# Altium footprint library Tiresias_active.PcbLib: 8 footprints
Each footprint in its own frame and in the unit in brackets; x right, y up, seen from the top. Pads: shape width x height; smd on the part's side, far side on the other; paste and mask are expansions set on the pad; w line width, h text height; cw(c..) or ccw(c..) is an arc to the next point about the centre after c.
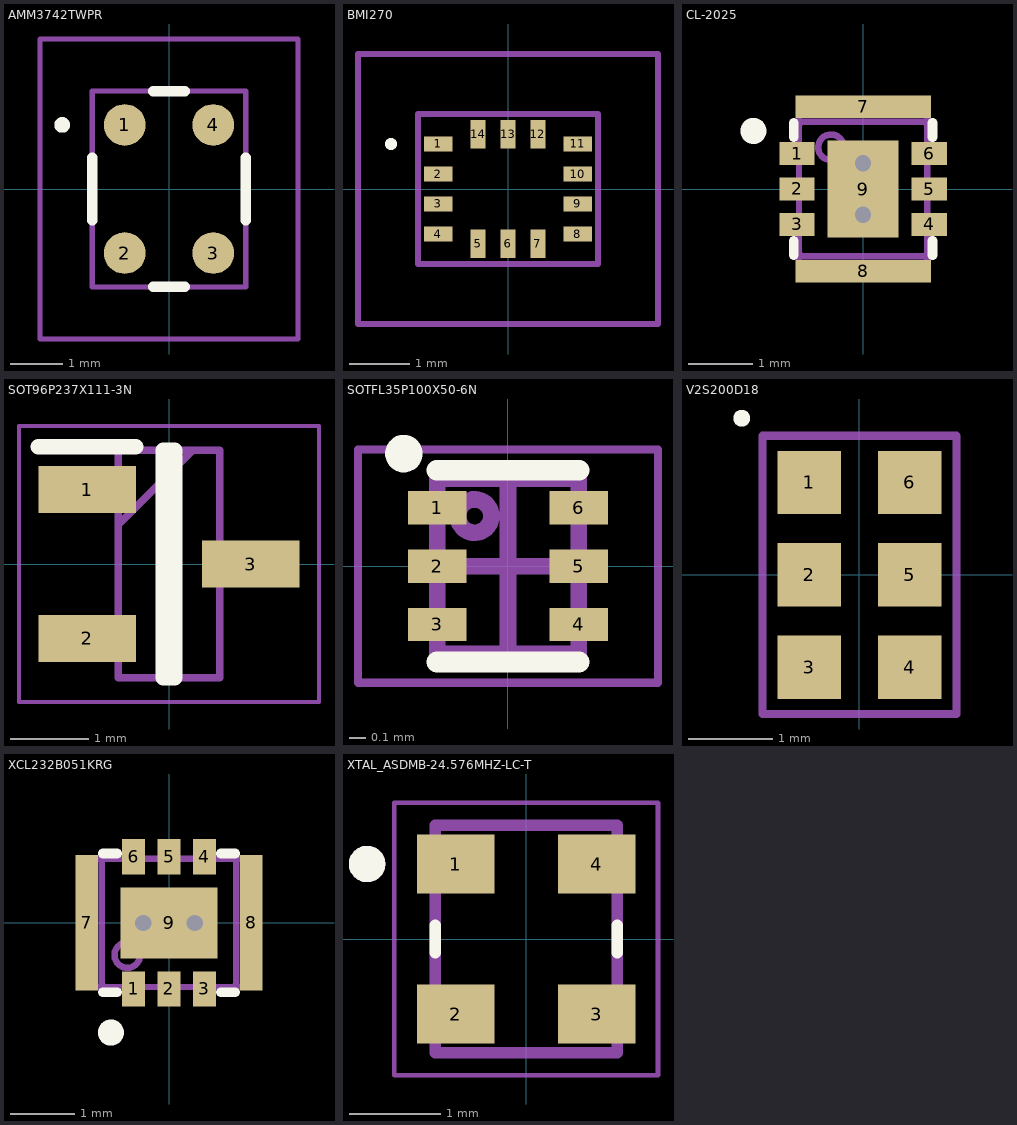
[diagram p0: the footprints below, top view; thin cyan lines are the x and y axes]

## AMM3742TWPR [mm]
pads (4):
  round 0.8 smd: 1(-0.85,1.23) 2(-0.85,-1.23) 3(0.85,-1.23) 4(0.85,1.23)
Top Overlay:
  lines w0.2: -1.475,-0.6 -1.475,0.6 ; -0.3,-1.88 0.3,-1.88 ; -0.3,1.88 0.3,1.88 ; 1.475,-0.6 1.475,0.6 ; -2.1,1.23 ccw(c-2.05,1.23) -2,1.23 ; -2.1,1.23 cw(c-2.05,1.23) -2,1.23 ; -2.1,1.23 ccw(c-2.05,1.23) -2,1.23
Mechanical 15:
  lines w0.1: -1.475,-1.88 -1.475,1.88 1.475,1.88 1.475,-1.88 -1.475,-1.88
Mechanical 20:
  lines w0.1: -2.475,-2.88 -2.475,2.88 2.475,2.88 2.475,-2.88 -2.475,-2.88
3D body "AMM-3742-T-WP-R.stp": height 1.4, standoff 0, extent -1.475,-1.88 1.475,1.88

## BMI270 [mm]
pads (14):
  rect 0.475x0.25 smd: 1(-1.163,0.75) 2(-1.163,0.25) 3(-1.163,-0.25) 4(-1.163,-0.75) 8(1.162,-0.75) 9(1.162,-0.25) 10(1.162,0.25) 11(1.162,0.75)
  rect 0.25x0.475 smd: 5(-0.5,-0.913) 6(0,-0.913) 7(0.5,-0.913) 12(0.5,0.913) 13(0,0.913) 14(-0.5,0.913)
Top Overlay:
  lines w0.1: -2,0.75 ccw(c-1.95,0.75) -1.9,0.75 ccw(c-1.95,0.75) -2,0.75
Mechanical 15:
  lines w0.1: -1.5,-1.25 1.5,-1.25 1.5,1.25 -1.5,1.25 -1.5,-1.25
Mechanical 20:
  lines w0.1: -2.5,-2.25 2.5,-2.25 2.5,2.25 -2.5,2.25 -2.5,-2.25
3D body "BMI270.stp": height 0.7, standoff -0.13, extent -1.5,-1.25 1.5,1.25

## CL-2025 [mm]
pads (9):
  rect 0.55x0.35 smd paste-0.025: 1(-1.025,0.55) 2(-1.025,0) 3(-1.025,-0.55) 4(1.025,-0.55) 5(1.025,0) 6(1.025,0.55)
  rect 2.1x0.35 smd paste-0.038: 7(0,1.275) 8(0,-1.275)
  rect 1.1x1.5 smd paste-5: 9(0,0)
via 0,0.4 diameter 0.5 hole 0.25
via 0,-0.4 diameter 0.5 hole 0.25
Top Overlay:
  circle w0.203: c-1.7,0.9 r0.1
  lines w0.15: -1.075,-1.025 -1.075,-0.8 ; -1.075,0.8 -1.075,1.025 ; 1.075,-1.025 1.075,-0.8 ; 1.075,0.8 1.075,1.025
Top Paste:
  rectangle: -0.45,-0.65 0.45,-0.25
  region: 0.45,0.65 -0.45,0.65 -0.45,0.25 0.45,0.25
Mechanical 7:
  circle w0.1: c-0.499,0.646 r0.198
  lines w0.1: -0.994,-0.982 -0.973,-1.045 0.972,-1.045 0.994,-0.982 ; -0.994,0.979 -0.973,1.045 0.972,1.045 0.994,0.979 ; -0.994,1.193 -0.994,-1.193 ccw(c-0.945,-1.193) -0.945,-1.242 ; -0.994,1.194 cw(c-0.945,1.194) -0.945,1.243 0.944,1.243 ; -0.945,-1.244 0.944,-1.244 ccw(c0.944,-1.195) 0.993,-1.195 ; 0.945,1.242 cw(c0.945,1.193) 0.994,1.193 0.994,-1.193
  text ".Designator" at 1.509,0.092 h0.3
3D body: height 0.4, standoff 0, extent -1.005,-1 1.005,1
3D body: height 1, standoff 0, extent -1,-1.25 1,1.25

## SOT96P237X111-3N [mm]
pads (3):
  rect 1.25x0.6 smd: 1(-1.05,0.955) 2(-1.05,-0.955) 3(1.05,0)
Top Overlay:
  lines w0.2: -1.675,1.505 -0.425,1.505 ; -0.075,-1.46 -0.075,1.46 0.075,1.46 0.075,-1.46 -0.075,-1.46
Mechanical 15:
  lines w0.1: -0.65,0.505 0.305,1.46 ; -0.65,-1.46 -0.65,1.46 0.65,1.46 0.65,-1.46 -0.65,-1.46
Mechanical 20:
  lines w0.05: -1.925,-1.77 -1.925,1.77 1.925,1.77 1.925,-1.77 -1.925,-1.77
3D body "FDV303N.stp": height 1.11, standoff 0, extent -1.185,-1.46 1.185,1.46

## SOTFL35P100X50-6N [mm]
pads (6):
  rect 0.35x0.2 smd mask+0.05: 1(-0.425,0.35) 2(-0.425,0) 3(-0.425,-0.35) 4(0.425,-0.35) 5(0.425,0) 6(0.425,0.35)
Top Overlay:
  circle w0.125: c-0.625,0.675 r0.05
  lines w0.125: -0.425,-0.575 0.425,-0.575 ; -0.425,0.575 0.425,0.575
Mechanical 7:
  circle w0.1: c-0.2,0.3 r0.1
  lines w0.1: -0.425,-0.525 -0.425,0.525 0.425,0.525 0.425,-0.525 -0.425,-0.525
  text ".Designator" at 0.076,1.518 h0.3
Mechanical 15:
  lines w0.05: -0.9,-0.7 -0.9,0.7 0.9,0.7 0.9,-0.7 -0.9,-0.7
  lines w0.1: -0.5,0 0.5,0 ; 0,-0.5 0,0.5
3D body "SOTFL35P100X50-6N.step": height 0.5, standoff 0, extent -0.5,-0.523 0.5,0.523

## V2S200D18 [mm]
pads (6):
  rect 0.75x0.75 smd: 1(-0.595,1.095) 2(-0.595,0) 3(-0.595,-1.095) 4(0.595,-1.095) 5(0.595,0) 6(0.595,1.095)
Top Overlay:
  lines w0.1: -1.446,1.857 ccw(c-1.396,1.857) -1.346,1.857 ccw(c-1.396,1.857) -1.446,1.857
Mechanical 3:
  lines w0.1: -1.15,-1.65 1.15,-1.65 1.15,1.65 -1.15,1.65 -1.15,-1.65
3D body "V2S200D-1-8.stp": height 1.13, standoff 0, extent -1.15,-1.65 1.15,1.65

## XCL232B051KRG [mm]
pads (9):
  rect 0.35x0.55 smd paste-0.025: 1(-0.55,-1.025) 2(0,-1.025) 3(0.55,-1.025) 4(0.55,1.025) 5(0,1.025) 6(-0.55,1.025)
  rect 0.35x2.1 smd paste-0.038: 7(-1.275,0) 8(1.275,0)
  rect 1.5x1.1 smd paste-5: 9(0,0)
via 0.4,0 diameter 0.5 hole 0.25
via -0.4,0 diameter 0.5 hole 0.25
Top Overlay:
  circle w0.203: c-0.9,-1.7 r0.1
  lines w0.15: -1.025,-1.075 -0.8,-1.075 ; -1.025,1.075 -0.8,1.075 ; 0.8,-1.075 1.025,-1.075 ; 0.8,1.075 1.025,1.075
Top Paste:
  region: -0.65,0.45 -0.65,-0.45 -0.25,-0.45 -0.25,0.45
  region: 0.65,-0.45 0.65,0.45 0.25,0.45 0.25,-0.45
Mechanical 7:
  circle w0.1: c-0.646,-0.499 r0.198
  lines w0.1: -1.243,0.944 -1.243,-0.945 ccw(c-1.194,-0.945) -1.194,-0.994 ; -1.242,0.945 cw(c-1.193,0.945) -1.193,0.994 1.193,0.994 ; -1.193,-0.994 1.193,-0.994 ccw(c1.193,-0.945) 1.242,-0.945 ; -0.979,-0.994 -1.045,-0.973 -1.045,0.972 -0.979,0.994 ; 0.982,-0.994 1.045,-0.973 1.045,0.972 0.982,0.994 ; 1.195,0.993 cw(c1.195,0.944) 1.244,0.944 1.244,-0.945
  text ".Designator" at -0.102,1.524 h0.3
3D body: height 1, standoff 0, extent -1.259,-0.986 1.241,1.014
3D body: height 0.4, standoff 0, extent -1.009,-0.991 0.991,1.019

## XTAL_ASDMB-24.576MHZ-LC-T [mm]
height 0.9
pads (4):
  rect 0.85x0.65 smd: 1(-0.775,0.825) 2(-0.775,-0.825) 3(0.775,-0.825) 4(0.775,0.825)
Top Overlay:
  circle w0.2: c-1.75,0.825 r0.1
  lines w0.127: -1,-0.15 -1,0.15 ; 1,-0.15 1,0.15
Mechanical 13:
  circle w0.2: c-1.75,0.825 r0.1
  lines w0.127: -1,-1.25 1,-1.25 1,1.25 -1,1.25 -1,-1.25
Mechanical 15:
  lines w0.05: -1.45,-1.5 1.45,-1.5 1.45,1.5 -1.45,1.5 -1.45,-1.5
3D body "ASDMB-24.576MHZ-LC-T.STEP": height 0.85, standoff -0.05, extent -1,-1.25 1,1.25